# Altium schematic symbol library MyLibraryV2.SchLib: 572 symbols (part 6 of 11)
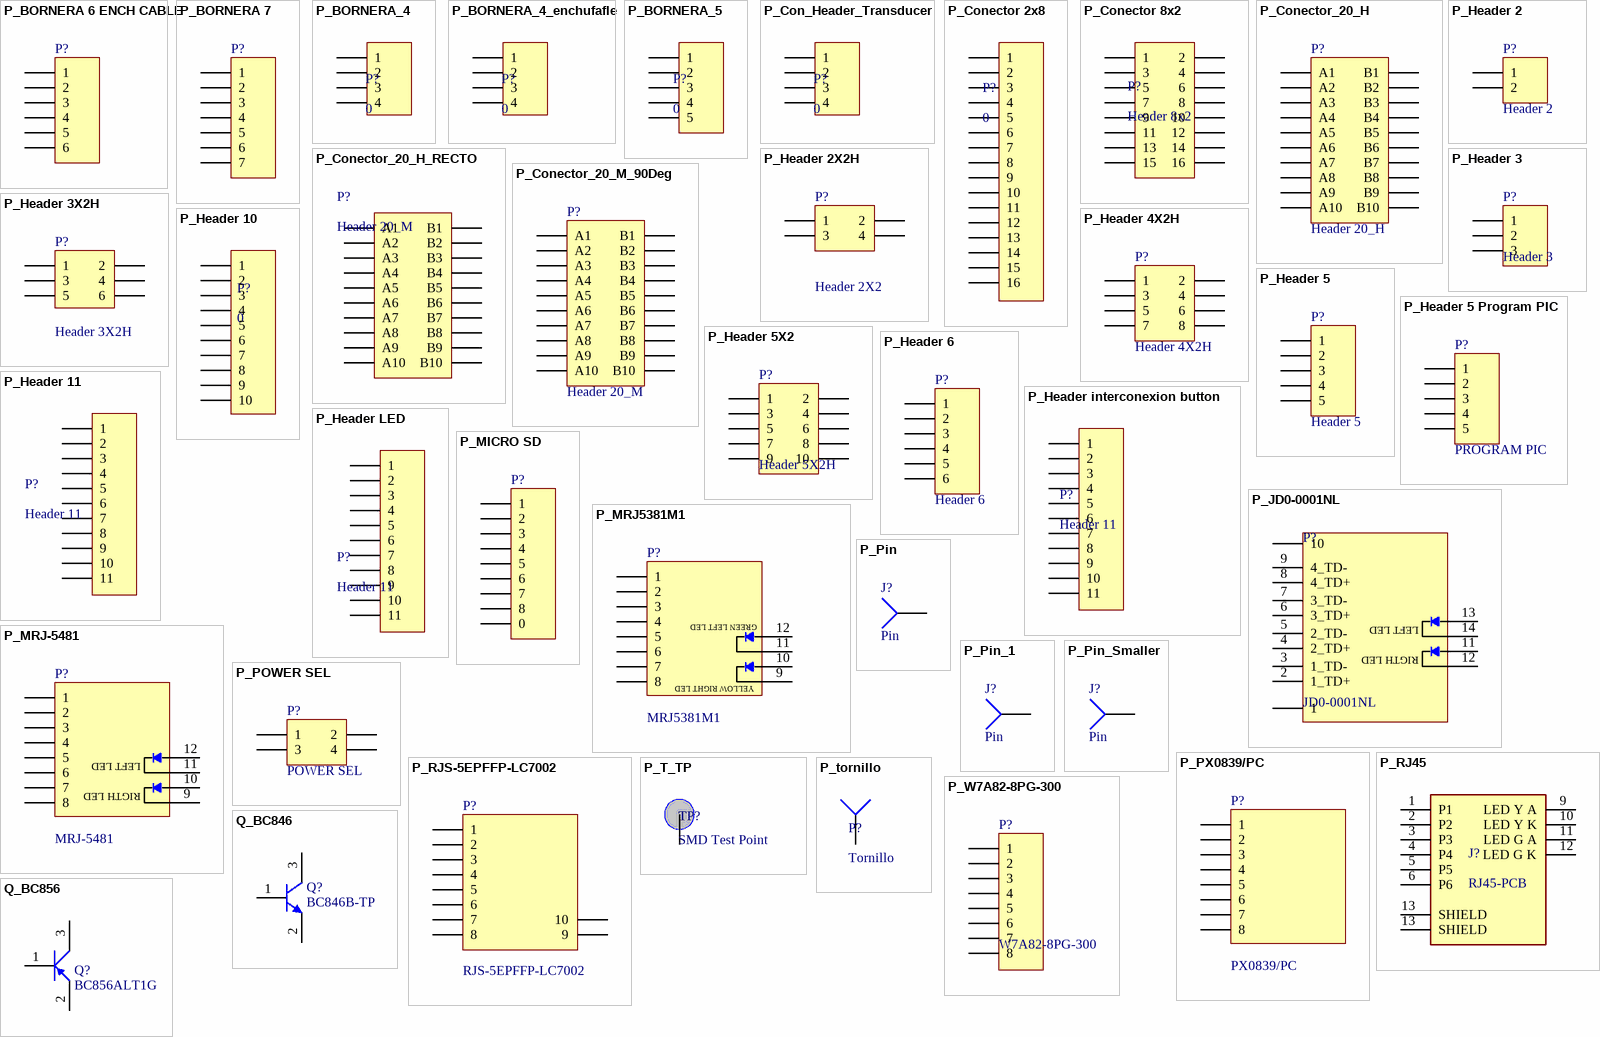
[diagram p21: symbols P_BORNERA 6 ENCH CABLE to Q_BC856]

## P_BORNERA 6 ENCH CABLE
designator P?, comment BORNERA 6 ENCH CABLE  (value not drawn)
Origin: CHINA; LatestRevisionDate: 17-Jul-2002; LatestRevisionNote: Re-released for DXP Platform.; Publisher: Altium Limited; Supplier 1: Digi-Key; Supplier Part Number 1: 609-4230-ND; Value: BORNERA 6 ENCH CABLE
pins: 1, 2, 3, 4, 5, 6

## P_BORNERA 7
designator P?, comment BORNERA 6 ENCH  (value not drawn)
Bornera 7; Value: BORNERA 6 ENCH
footprint P_CON1X7
pins: 1, 2, 3, 4, 5, 6, 7

## P_BORNERA_4
designator P?, comment 0
Value: 0
footprint P_BORNERA4
pins: 1, 2, 3, 4

## P_BORNERA_4_enchufafle
designator P?, comment 0
Value: 0
footprint P_BORNERA 4  ENCH
pins: 1, 2, 3, 4

## P_BORNERA_5
designator P?, comment 0
Value: 0
footprint P_BORNERA5
pins: 1, 2, 3, 4, 5

## P_Con_Header_Transducer
designator P?, comment 0
Value: 0
footprint P_CONN HEADER R/A 4POS 4.2MM
pins: 1, 2, 3, 4

## P_Conector 2x8
designator P?, comment 0
Value: 0
footprint P_CON2X8
pins: 1, 2, 3, 4, 5, 6, 7, 8, 9, 10, 11, 12, 13, 14, 15, 16

## P_Conector 8x2
designator P?, comment Header 8x2
Value: Header 8x2
footprint P_HDR2X8_3D (Connector; Header; 8x2 Position)
pins: 1, 2, 3, 4, 5, 6, 7, 8, 9, 10, 11, 12, 13, 14, 15, 16

## P_Conector_20_H
designator P?, comment Header 20_H
Conector 20 Position Din Connector Plug, Male Pins Gold Through Hole, Right Angle; Manufacturer: HARTING Technology; Manufacturer Part Number: 09242206825; Current Rating: 2A; Gender: Female; Connector Type: Receptacle; Number of Positions: 20; Pitch: 2.54mm; Tail Length: 4.5mm; Mounting Technology: Through Hole; Contact Material: Copper Alloy; Contact Plating: Gold; Insulation Material: Glass; Housing Material: Thermoplastic; Shell Size: 3B; Packaging: Bulk; Package Quantity: 20; Number of Rows: 2; Termination: Solder; Number of Contacts: 20; Orientation: Straight; Series: DIN 41612; Lead Free: Lead Free; Flammability Rating: UL94 V-0; RoHS Compliant: Yes; ComponentLink1URL: https://datasheet.ciiva.com/11731/0900766b811d3497-11731844.pdf?src-supplier=Rs; ComponentLink1Description: https://datasheet.ciiva.com/11731/0900766b811d3497-11731844.pdf?src-supplier=Rs; Supplier 1: Mouser; Supplier Part Number 1: 617-09-24-220-6825; RoHS: Yes; Category: DIN 41612 Connectors; Stock 1: 166; Pricing 1: 1=4,87, 10=4,27, 50=4,27, 100=3,55, 1000=2,94, 10000=2,74 (USD); Value: Header 20_H
footprint P_DIN41612-20-H (20 Position Din Connector Plug, Female Pins Gold Through Hole)
pins: A1, A2, A3, A4, A5, A6, A7, A8, A9, A10, B1, B2, B3, B4, B5, B6, B7, B8, B9, B10

## P_Conector_20_H_RECTO
designator P?, comment Header 20_M
Harting DIN Signal 3Q020MS-4, 0C1-2 - 09751206903; Manufacturer: HARTING Technology; Number of Positions: 20; Supplier: Mouser; Supplier Part Number: 617-09751206903; Manufacturer Part Number: 09751206903; RoHS: Yes; Category: DIN 41612 Connectors; Stock: 41; Pricing: 1=4.62, 10=2.92, 50=2.92, 100=2.74, 1000=2.17, 10000=1.99 (USD); Mounting Technology: Through Hole; Contact Plating: Gold; Insulation Material: Glass; Min Operating Temperature: -55°C; Max Operating Temperature: 125°C; Packaging: Bulk; Number of Rows: 2; Termination: Solder; Series: DIN 41612; Flammability Rating: UL94 V-0; RoHS Compliant: Yes; ComponentLink1URL: https://b2b.harting.com/files/livebooks/EN/PRD0200000100063/downloads/livebook.pdf?src-supplier=Digikey; ComponentLink1Description: https://b2b.harting.com/files/livebooks/EN/PRD0200000100063/downloads/livebook.pdf?src-supplier=Digikey
footprint P_DIN41612-20-M -RECTO (20 Position Din Connector Plug, Male Pins Gold Through Hole, Right Angle)
pins: A1, A2, A3, A4, A5, A6, A7, A8, A9, A10, B1, B2, B3, B4, B5, B6, B7, B8, B9, B10

## P_Conector_20_M_90Deg
designator P?, comment Header 20_M
Conector 20 Position Din Connector Plug, Male Pins Gold Through Hole, Right Angle; Manufacturer: HARTING Technology; Manufacturer Part Number: 09241206921; Gender: Female; Current Rating: 2A; Number of Positions: 20; Test Voltage: 1kV; Contact Resistance: 15MR; Pitch: 2.54mm; Mounting Technology: Through Hole; Contact Material: Copper Alloy,Nickel,Gold; Contact Plating: Gold; Insulation Material: Glass; Housing Material: Thermoplastic; Shell Size: 3B; Number of Rows: 2; Packaging: Bulk; Package Quantity: 20; Termination: Solder; Number of Contacts: 20; Orientation: Straight; Series: DIN 41612; Reach SVHC Compliant: No; Lead Free: Lead Free; Flammability Rating: UL94 V-0; RoHS Compliant: Yes; ComponentLink1URL: https://datasheet.ciiva.com/11731/0900766b80ddbe97-11731613.pdf?src-supplier=Rs; ComponentLink1Description: https://datasheet.ciiva.com/11731/0900766b80ddbe97-11731613.pdf?src-supplier=Rs; Supplier 1: Mouser; Supplier Part Number 1: 617-09-24-120-6921; RoHS: Yes; Category: DIN 41612 Connectors; Stock 1: 820; Pricing 1: 1=4,28, 10=3,89, 50=3,89, 100=3,43, 1000=2,48, 10000=2,31 (USD); Value: Header 20_M
footprint P_DIN41612-20-M (20 Position Din Connector Plug, Male Pins Gold Through Hole, Right Angle)
pins: A1, A2, A3, A4, A5, A6, A7, A8, A9, A10, B1, B2, B3, B4, B5, B6, B7, B8, B9, B10

## P_Header 2
designator P?, comment Header 2
Header, 2-Pin; Value: Header 2
footprint P_HDR1X2_3D
pins: 1, 2

## P_Header 2X2H
designator P?, comment Header 2X2
Header, 2-Pin, Dual row, Right Angle; Value: Header 2X2
footprint P_HDR2X2_3D (Connector; Header; 2x2 Position)
pins: 1, 2, 3, 4

## P_Header 3
designator P?, comment Header 3
Header, 3-Pin; Value: Header 3
footprint P_HDR1X3_3D
pins: 1, 2, 3

## P_Header 3X2H
designator P?, comment Header 3X2H
Header, 3-Pin, Dual row, Right Angle; Value: Header 3X2H
footprint P_HDR2X3_3D (Connector; Header; 3x2 Position)
pins: 1, 2, 3, 4, 5, 6

## P_Header 4X2H
designator P?, comment Header 4X2H
Header, 4-Pin, Dual row, Right Angle; Value: Header 4X2H
footprint P_HDR2X4 _3d (Connector; Header; 4x2 Position)
pins: 1, 2, 3, 4, 5, 6, 7, 8

## P_Header 5
designator P?, comment Header 5
Header, 5-Pin; Value: Header 5
footprint P_HDR1X5_3D (Connector; Header; 5 Position)
pins: 1, 2, 3, 4, 5

## P_Header 5 Program PIC
designator P?, comment PROGRAM PIC
Header, 5-Pin, programador PIC; Value: PROGRAM PIC
footprint P_HDR1X5_3D (Connector; Header; 5 Position)
pins: 1, 2, 3, 4, 5

## P_Header 5X2
designator P?, comment Header 5X2H
Header, 5-Pin, Dual row, Right Angle; Value: Header 5X2H
footprint P_CONN HDR10POS
pins: 1, 2, 3, 4, 5, 6, 7, 8, 9, 10

## P_Header 6
designator P?, comment Header 6
Header, 6-Pin; Value: Header 6
footprint P_HDR1X6_3D (Connector; Header; 6 Position)
pins: 1, 2, 3, 4, 5, 6

## P_Header 10
designator P?, comment 0
Value: 0
footprint P_CON2X5
pins: 1, 2, 3, 4, 5, 6, 7, 8, 9, 10

## P_Header 11
designator P?, comment Header 11
Header, 11-Pin; Value: Header 11
footprint P_Header 11
pins: 1, 2, 3, 4, 5, 6, 7, 8, 9, 10, 11

## P_Header interconexion button
designator P?, comment Header 11
Header, 11-Pin; Value: Header 11
footprint P_Header interconexion button
pins: 1, 2, 3, 4, 5, 6, 7, 8, 9, 10, 11

## P_Header LED
designator P?, comment Header 11
Header, 11-Pin; Value: Header 11
footprint P_Header led
pins: 1, 2, 3, 4, 5, 6, 7, 8, 9, 10, 11

## P_JD0-0001NL
designator P?, comment JD0-0001NL
Conector JD0-0001NL; Value: JD0-0001NL
footprint P_JD0-0001NL (RJ45-PCB)
pins: 1, 2 1_TD+, 3 1_TD-, 4 2_TD+, 5 2_TD-, 6 3_TD+, 7 3_TD-, 8 4_TD+, 9 4_TD-, 10, 11, 12, 13, 14
text: LEFT LED; RIGTH LED

## P_MICRO SD
designator P?, comment MICRO SD  (value not drawn)
Value: MICRO SD
footprint P_SD_CARD
pins: 0, 1, 2, 3, 4, 5, 6, 7, 8

## P_MRJ5381M1
designator P?, comment MRJ5381M1
Conector Modular Jack RCP 8 POS Solder RA Thru-Hole 8 Terminal 1 Port; Value: MRJ5381M1
footprint P_MRJ5381M1 (Conn Modular Jack RCP 8 POS Solder RA Thru-Hole 8 Terminal 1 Port)
pins: 1, 2, 3, 4, 5, 6, 7, 8, 9, 10, 11, 12
text: GREEN LEFT LED; YELLOW RIGHT LED

## P_MRJ-5481
designator P?, comment MRJ-5481
Conector MRJ-5481; Value: MRJ-5481
footprint P_RJ-45
pins: 1, 2, 3, 4, 5, 6, 7, 8, 9, 10, 11, 12
text: LEFT LED; RIGTH LED

## P_Pin
designator J?, comment Pin
Value: Pin
footprint P_PIN1 (Connector; Plug)
pins: 1

## P_Pin_1
designator J?, comment Pin
Value: Pin
footprint P_PIN
pins: 1

## P_Pin_Smaller
designator J?, comment Pin
Manufacturer: Keystone Electronics; Manufacturer Part Number: 6044; Body Material: Copper,Nylon,Polyamide; Plating: Silver; Number of Positions: 4; Gender: Female; Current Rating: 5A; Operating Supply Voltage: 1.5kV; Insulation: Mating End Insulated; Pitch: 0.375inch; Mounting Technology: Through Hole,Vertical; Contact Material: Brass,Copper; Contact Plating: Silver,Tin; Color: Black; Material: Bronze,Silver; Insulation Material: Nylon; Insulation Color: Black; Number of Rows: 1; Termination: Turret; Series: -; Package Quantity: 1; Packaging: Bulk; Height: 7.94mm; Reach SVHC Compliant: No; Lead Free: Lead Free; RoHS Compliant: Yes; ComponentLink1URL: https://datasheet.ciiva.com/16372/m60-2p105-16372476.pdf?src-supplier=Future+Electronics; ComponentLink1Description: https://datasheet.ciiva.com/16372/m60-2p105-16372476.pdf?src-supplier=Future+Electronics; Supplier 1: Mouser; Supplier Part Number 1: 534-6044; RoHS: Yes; Category: Connectors; Stock 1: 3287; Pricing 1: 1=1,16, 10=1,16, 50=1,01, 100=0,932, 1000=0,549, 10000=0,424 (USD); Value: Pin
footprint P_PIN1_Smaller (Connector; Plug)
pins: 1

## P_POWER SEL
designator P?, comment POWER SEL
Value: POWER SEL
footprint P_POWER SEL
pins: 1, 2, 3, 4

## P_PX0839/PC
designator P?, comment PX0839/PC
Conector Modular Jack RCP 8 POS Solder RA Thru-Hole 8 Terminal 1 Port; Value: PX0839/PC
footprint P_PX0839/PC (Connector RJ45)
pins: 1, 2, 3, 4, 5, 6, 7, 8

## P_RJ45
designator J?, comment RJ45-PCB
Conector MagJack 10/100BASE-T | 1X1 | No LED | Tab Down | RoHS; Value: RJ45-PCB
footprint P_RJ45-PCB
pins: 1 P1, 2 P2, 3 P3, 4 P4, 5 P5, 6 P6, 9 LED Y A, 10 LED Y K, 11 LED G A, 12 LED G K, 13 SHIELD, 13 SHIELD

## P_RJS-5EPFFP-LC7002
designator P?, comment RJS-5EPFFP-LC7002
Conector RJ45 FMF; Manufacturer: Amphenol; Connector Type: Jack; Direction: User Selectable; Number of Ports: 1; Shielding: Shielded; Gender: 4472Gender; Number of Contacts: 8NUMBER; Ratings: IP67,Waterproof,Dust Tight; Mounting Technology: Panel,Bulkhead; Pins: 8NUMBER; Contact Plating: Gold; Housing Material: Nylon; Contact Material: 157ConductorMaterial; Min Operating Temperature: -20°C; Max Operating Temperature: 70°C; Packaging: Tray; Number of Rows: 1; Termination: Solder; Series: -; Orientation: 5491OrientationType; Height: 20.75mm; RoHS Compliant: No; ComponentLink1URL: http://www.mouser.com/ds/2/18/RJS-5EPFFP-LC7002-1013714.pdf?src-supplier=Mouser; ComponentLink1Description: http://www.mouser.com/ds/2/18/RJS-5EPFFP-LC7002-1013714.pdf?src-supplier=Mouser; ComponentLink2URL: http://datasheet.octopart.com/RJS-5EPFFP-LC7002-Amphenol-datasheet-68357086.pdf?src-supplier=Avnet; ComponentLink2Description: http://datasheet.octopart.com/RJS-5EPFFP-LC7002-Amphenol-datasheet-68357086.pdf?src-supplier=Avnet; ComponentLink3URL: http://datasheet.octopart.com/RJS-5EPFFP-LC7002-Amphenol-datasheet-68357086.pdf?src-supplier=Future+Electronics; ComponentLink3Description: http://datasheet.octopart.com/RJS-5EPFFP-LC7002-Amphenol-datasheet-68357086.pdf?src-supplier=Future+Electronics; ComponentLink4URL: http://www.amphenolltw.com/2012download/2D PDF/08_RJ Connectors/RJS-5EPFFP-LC7002.pdf?src-supplier=Digikey; ComponentLink4Description: http://www.amphenolltw.com/2012download/2D PDF/08_RJ Connectors/RJS-5EPFFP-LC7002.pdf?src-supplier=Digikey; ComponentLink5URL: http://datasheet.octopart.com/RJS-5EPFFP-LC7002-Amphenol-datasheet-68357086.pdf?src-supplier=Distrelec; ComponentLink5Description: http://datasheet.octopart.com/RJS-5EPFFP-LC7002-Amphenol-datasheet-68357086.pdf?src-supplier=Distrelec; ComponentLink6URL: http://datasheet.octopart.com/RJS-5EPFFP-LC7002-Amphenol-datasheet-68357086.pdf?src-supplier=Rs; ComponentLink6Description: http://datasheet.octopart.com/RJS-5EPFFP-LC7002-Amphenol-datasheet-68357086.pdf?src-supplier=Rs; ComponentLink7URL: http://datasheet.octopart.com/RJS-5EPFFP-LC7002-Amphenol-datasheet-68357086.pdf?src-supplier=NAC+Semi; ComponentLink7Description: http://datasheet.octopart.com/RJS-5EPFFP-LC7002-Amphenol-datasheet-68357086.pdf?src-supplier=NAC+Semi; ComponentLink8URL: https://datasheet.octopart.com/RJS-5EPFFP-LC7002-Amphenol-datasheet-140257190.pdf?src-supplier=TME; ComponentLink8Description: https://datasheet.octopart.com/RJS-5EPFFP-LC7002-Amphenol-datasheet-140257190.pdf?src-supplier=TME; ComponentLink9URL: http://datasheet.octopart.com/RJS-5EPFFP-LC7002-Amphenol-datasheet-68357086.pdf?src-supplier=TTI; ComponentLink9Description: http://datasheet.octopart.com/RJS-5EPFFP-LC7002-Amphenol-datasheet-68357086.pdf?src-supplier=TTI; ComponentLink10URL: http://datasheet.octopart.com/RJS-5EPFFP-LC7002-Amphenol-datasheet-68357086.pdf?src-supplier=Electro+Sonic; ComponentLink10Description: http://datasheet.octopart.com/RJS-5EPFFP-LC7002-Amphenol-datasheet-68357086.pdf?src-supplier=Electro+Sonic; Supplier 1: Mouser; Supplier Part Number 1: 523-RJS-5EPFFPLC7002; Manufacturer Part Number: RJS-5EPFFP-LC7002; RoHS: No; Category: Modular / Ethernet Connectors; Stock 1: 1184; Pricing 1: 1=8,57, 10=8,09, 50=7,52, 100=7,12, 1000=6,23, 10000=6,23 (USD); Value: RJS-5EPFFP-LC7002
footprint P_RJS-5EPFFP-LC7002 (Connector RJ45)
pins: 1, 2, 3, 4, 5, 6, 7, 8, 9, 10

## P_T_TP
designator TP?, comment SMD Test Point
Test Point SMD; Origin: CHINA; Published: 8-Jun-2000; LatestRevisionDate: 17-Jul-2002; LatestRevisionNote: Re-released for DXP Platform.; PackageReference: AXIAL-0.3; Publisher: Altium Limited; PackageDescription: Axial Device, Thru-Hole; 2 Leads; 0.3 in Pin Spacing; Supplier 1: Mouser; Supplier Part Number 1: 279-RCT-0C; Type: CONNECTOR; Value: SMD Test Point
footprint TP SMD
pins: 1

## P_tornillo
designator P?, comment Tornillo
Value: Tornillo
footprint P_Tornillo
pins: 1

## P_W7A82-8PG-300
designator P?, comment W7A82-8PG-300
Header, 8-Pin Alimentacion; Manufacturer: Switchcraft Conxall; Connector Type: Receptacle; Current Rating: 10A; Voltage Rating: 250V; Ratings: IP67,Waterproof,Dust Tight; Mounting Technology: Panel,Bulkhead,Front Side Nut; Pins: 8; Contact Plating: Gold; Min Operating Temperature: -40°C; Max Operating Temperature: 85°C; Packaging: Bulk; Termination: Solder; Fastening Type: Bayonet; Series: Mini-Con-X®; ComponentLink1URL: https://media.digikey.com/pdf/Data%20Sheets/Switchcraft%20PDFs/Mini_Con_X.pdf?src-supplier=Digikey; ComponentLink1Description: https://media.digikey.com/pdf/Data%20Sheets/Switchcraft%20PDFs/Mini_Con_X.pdf?src-supplier=Digikey; Supplier 1: Mouser; Supplier Part Number 1: 502-W7A82-8PG-300; Manufacturer Part Number: W7A82-8PG-300; RoHS: Yes; Category: Circular Connectors; Stock 1: 198; Pricing 1: 1=14,08, 10=12,8, 50=11,49, 100=10,96, 1000=9,14, 10000=9,14 (USD); Value: W7A82-8PG-300
footprint P_W7A82-8PG-300
pins: 1, 2, 3, 4, 5, 6, 7, 8

## Q_BC846
designator Q?, comment BC846B-TP
NPN Bipolar Transistor; Manufacturer: MCC; Collector Emitter Voltage (VCEO): 65V; Frequency: 100MHz; Max Collector Current: 100mA; Max Power Dissipation: 225mW; Number of Elements: 1; Collector Base Voltage (VCBO): 80V; Emitter Base Voltage (VEBO): 6V; Collector-emitter Voltage-Max: 500mV; Mounting Technology: Surface Mount; Case/Package: SOT-23; Pins: 3; Min Operating Temperature: -55°C; Max Operating Temperature: 150°C; Packaging: Tape and Reel; Package Quantity: 3000; Transition Frequency: 100MHz; Collector Emitter Breakdown Voltage: 65V; Max Breakdown Voltage: 65V; Polarity: NPN; Power Dissipation: 225mW; Series: -; RoHS Compliant: Yes; ComponentLink1URL: https://datasheet.ciiva.com/972/bc846a-bc849csot-23-972810.pdf?src-supplier=Digikey; ComponentLink1Description: https://datasheet.ciiva.com/972/bc846a-bc849csot-23-972810.pdf?src-supplier=Digikey; ComponentLink2URL: https://datasheet.ciiva.com/972/bc846a-bc849csot-23-972811.pdf?src-supplier=Digikey; ComponentLink2Description: https://datasheet.ciiva.com/972/bc846a-bc849csot-23-972811.pdf?src-supplier=Digikey; ComponentLink3URL: https://datasheet.ciiva.com/972/bc846a-bc849csot-23-972812.pdf?src-supplier=Digikey; ComponentLink3Description: https://datasheet.ciiva.com/972/bc846a-bc849csot-23-972812.pdf?src-supplier=Digikey; Supplier 1: Mouser; Supplier Part Number 1: 833-BC846B-TP; Manufacturer Part Number: BC846B-TP; RoHS: Yes; Category: BJTs; Stock 1: 7248; Pricing 1: 1=0,13, 10=0,119, 50=0,119, 100=0,04, 1000=0,028, 10000=0,018 (USD); Value: BC846B-TP
footprint Q_SOT-23
pins: 1 B, 2 E, 3 C

## Q_BC856
designator Q?, comment BC856ALT1G
TRANS PNP 65V 0.1A SOT23; Manufacturer: ON Semiconductor; Max Power Dissipation: 300mW; Max Collector Current: 100mA; Transition Frequency: 100MHz; Emitter Base Voltage (VEBO): 5V; Collector Base Voltage (VCBO): 80V; Collector Emitter Saturation Voltage: -650mV; Collector-emitter Voltage-Max: 650mV; hFE Min: 125; Number of Elements: 1; Voltage Rating (DC): -65V; Current Rating: -100mA; ComponentLink1Description: Manufacturer Link; ComponentLink1URL: http://www.fairchildsemi.com/; ComponentLink2Description: Datasheet; ComponentLink2URL: http://www.fairchildsemi.com/ds/2N%2F2N3904.pdf; Case/Package: SOT-23-3; Pins: 3; Contact Plating: Tin,Matte; Min Operating Temperature: -55°C; Max Operating Temperature: 150°C; Package Quantity: 3000; Packaging: Tape and Reel; Collector Emitter Breakdown Voltage: 65V; Polarity: PNP; Clock Frequency: 100MHz; Gain Bandwidth Product: 100MHz; Series: -; Collector Emitter Voltage (VCEO): 65V; Frequency: 100MHz; Max Breakdown Voltage: 65V; Power Dissipation: 300mW; Length: 2.9mm; Width: 1.3mm; Height: 0.94mm; Radiation Hardening: No; Lead Free: Lead Free; RoHS Compliant: Yes; Reach SVHC Compliant: No; ComponentLink3URL: http://www.farnell.com/datasheets/1840529.pdf?src-supplier=Farnell; ComponentLink3Description: http://www.farnell.com/datasheets/1840529.pdf?src-supplier=Farnell; ComponentLink4URL: http://www.alliedelec.com/m/d/ae2fff4c1f3549b23e4cd9e6cc054b51.pdf?src-supplier=Allied+Electronics; ComponentLink4Description: http://www.alliedelec.com/m/d/ae2fff4c1f3549b23e4cd9e6cc054b51.pdf?src-supplier=Allied+Electronics; ComponentLink5URL: http://www.mouser.com/ds/2/308/BC856ALT1-D-249456.pdf?src-supplier=Mouser; ComponentLink5Description: http://www.mouser.com/ds/2/308/BC856ALT1-D-249456.pdf?src-supplier=Mouser; ComponentLink6URL: http://www.farnell.com/datasheets/1840529.pdf?src-supplier=Element14; ComponentLink6Description: http://www.farnell.com/datasheets/1840529.pdf?src-supplier=Element14; ComponentLink7URL: http://www.farnell.com/datasheets/1840529.pdf?src-supplier=Newark; ComponentLink7Description: http://www.farnell.com/datasheets/1840529.pdf?src-supplier=Newark; Supplier Part Number 1: 863-BC856ALT1G; Manufacturer Part Number: BC856ALT1G; RoHS: Yes; Category: BJTs; Stock 1: 30566; Pricing 1: 1=0,11, 10=0,071, 50=0,071, 100=0,034, 1000=0,021, 10000=0,015 (USD); Value: BC856ALT1G; Supplier 1: Mouser
footprint Q_SOT-23B_N (SOT23, 3-Leads, Body 2.9x1.3mm, Pitch 0.95mm, Lead Span 2.4mm, IPC Medium Density)
pins: 1 B, 2 E, 3 C

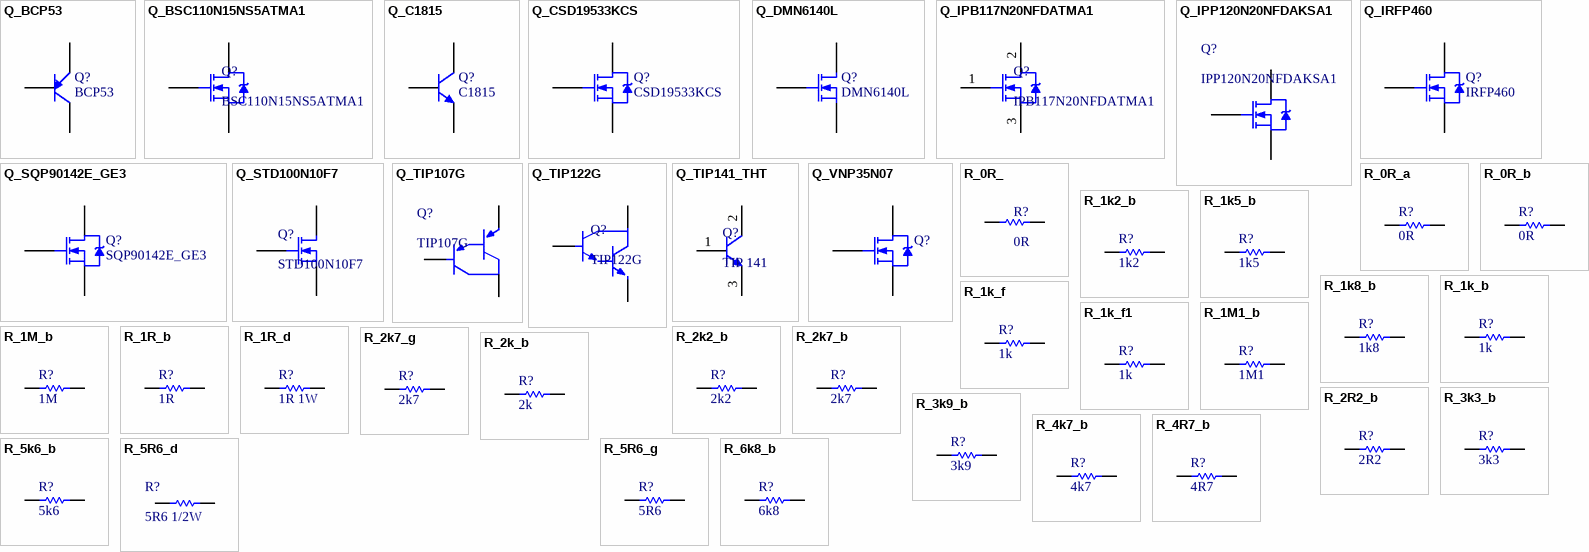
[diagram p8: symbols Q_BCP53 to R_6k8_b]

## Q_BCP53
designator Q?, comment BCP53
(Modificar) Transistor; Value: BCP53
pins: 1 B, 2 E, 3 C

## Q_BSC110N15NS5ATMA1
designator Q?, comment BSC110N15NS5ATMA1
(Modificar) Transistor; Value: BSC110N15NS5ATMA1
footprint Q_SMD_TDSON 8
pins: 1 G, 2 D, 3 S

## Q_C1815
designator Q?, comment C1815
(Modificar) Transistor; Value: C1815
pins: 1 C, 2 B, 3 E

## Q_CSD19533KCS
designator Q?, comment CSD19533KCS
(Modificar) Transistor; ComponentLink1Description: Manufacturer Link; Value: CSD19533KCS
pins: 1 G, 2 D, 3 S

## Q_DMN6140L
designator Q?, comment DMN6140L
(Modificar) Transistor; Value: DMN6140L
pins: 1 G, 2 S, 3 D

## Q_IPB117N20NFDATMA1
designator Q?, comment IPB117N20NFDATMA1
MOSFET N-CH 200V 84A TO263-3; Manufacturer: Infineon; Input Capacitance: 6.65nF; Rds On Max: 11.7mR; Max Power Dissipation: 300W; Turn-On Delay Time: 13ns; Rise Time: 10ns; Turn-Off Delay Time: 24ns; Fall Time: 8ns; Threshold Voltage: 3V; Gate to Source Voltage (Vgs): 20V; Number of Channels: 1; Polarity: N-CHANNEL; Mounting Technology: Surface Mount; Case/Package: TO-263-3; Pins: 3; Weight: 0.068654oz; Min Operating Temperature: -55°C; Max Operating Temperature: 175°C; Packaging: Tape and Reel; Package Quantity: 1; Drain to Source Voltage (Vdss): 200V; Continuous Drain Current (ID): 84A; Drain to Source Resistance: 11.7mR; Max Dual Supply Voltage: 200V; Series: OptiMOS™; Drain to Source Breakdown Voltage: 200V; On-State Resistance: 11.7mR; Power Dissipation: 300W; Height: 4.82mm; Reach SVHC Compliant: No; Lead Free: Contains Lead; Halogen Free: Halogen Free; RoHS Compliant: Yes; ComponentLink1URL: http://www.farnell.com/datasheets/2117698.pdf?src-supplier=Farnell; ComponentLink1Description: http://www.farnell.com/datasheets/2117698.pdf?src-supplier=Farnell; ComponentLink2URL: http://www.mouser.com/ds/2/196/DS_IPB117N20NFD_2_0-372014.pdf?src-supplier=Mouser; ComponentLink2Description: http://www.mouser.com/ds/2/196/DS_IPB117N20NFD_2_0-372014.pdf?src-supplier=Mouser; ComponentLink3URL: http://www.farnell.com/datasheets/2117698.pdf?src-supplier=Element14; ComponentLink3Description: http://www.farnell.com/datasheets/2117698.pdf?src-supplier=Element14; Supplier 1: Mouser; Supplier Part Number 1: 726-IPB117N20NFD; Manufacturer Part Number: IPB117N20NFDATMA1; RoHS: Yes; Category: MOSFETs; Stock 1: 1769; Pricing 1: 1=6,39, 10=5,75, 50=5,49, 100=4,6, 1000=3,35, 10000=3,28 (USD); Value: IPB117N20NFDATMA1
footprint Q_SMD_D2PAK_B
pins: 1 G, 2 D, 3 S

## Q_IPP120N20NFDAKSA1
designator Q?, comment IPP120N20NFDAKSA1
IPP120N20NFD Series 200 V 84 A OptiMOSFD Power Transistor MOSFET - TO-220-3; Manufacturer: Infineon; Value: IPP120N20NFDAKSA1; Case/Package: TO-220-3; Pins: 3; Packaging: Rail/Tube; Halogen Free: Halogen Free; Lead Free: Lead Free; RoHS Compliant: Yes; Reach SVHC Compliant: Yes; ComponentLink1URL: http://www.farnell.com/datasheets/1932551.pdf?src-supplier=Element14; ComponentLink1Description: http://www.farnell.com/datasheets/1932551.pdf?src-supplier=Element14; Supplier 1: Mouser; Supplier Part Number 1: 726-IPP120N20NFDAKS1; Manufacturer Part Number: IPP120N20NFD; RoHS: Yes; Category: Uncategorized; Stock 1: 2034; Pricing 1: 1=6,7, 10=6,18, 50=4,4, 100=4,11, 1000=3,48, 10000=3,48 (USD)
footprint Q_THT_TO-220AB
pins: 1 G, 2 D, 3 S

## Q_IRFP460
designator Q?, comment IRFP460
HEXFET Power MOSFET; Value: IRFP460
footprint TO-247 - BIS
pins: 1 G, 2 D, 3 S

## Q_SQP90142E_GE3
designator Q?, comment SQP90142E_GE3
(Modificar) Transistor; Value: SQP90142E_GE3
pins: 1 G, 2 D, 3 S

## Q_STD100N10F7
designator Q?, comment STD100N10F7
Value: STD100N10F7
footprint Q_SMD_TO-252
pins: 1 G, 2 D, 3 S

## Q_TIP107G
designator Q?, comment TIP107G
ON Semi TIP107G PNP Darlington Transistor; 8 A 100 V HFE: 200; 3-Pin TO-220AB; Manufacturer: ON Semiconductor; Number of Elements: 1; hFE Min: 200; Max Power Dissipation: 2W; Collector Emitter Voltage (VCEO): 100V; Emitter Base Voltage (VEBO): 5V; Max Collector Current: 8A; Collector Emitter Saturation Voltage: 2V; Power Dissipation: 80W; Voltage Rating (DC): -100V; Current Rating: -8A; Collector-emitter Voltage-Max: 2.5V; Case/Package: TO-220-3; Pins: 3; Min Operating Temperature: -65°C; Max Operating Temperature: 150°C; Package Quantity: 50; Packaging: Rail/Tube; Polarity: PNP; Collector Base Voltage (VCBO): 100V; Collector Emitter Breakdown Voltage: 100V; Series: -; Length: 10.28mm; Width: 4.82mm; Height: 9.28mm; Radiation Hardening: No; Reach SVHC Compliant: No; Lead Free: Lead Free; RoHS Compliant: Yes; ComponentLink1URL: https://datasheet.ciiva.com/15139/getdatasheetpartid-68093-15139923.pdf?src-supplier=Verical; ComponentLink1Description: https://datasheet.ciiva.com/15139/getdatasheetpartid-68093-15139923.pdf?src-supplier=Verical; ComponentLink2URL: https://datasheet.ciiva.com/6358/tip100-d-6358476.pdf?src-supplier=Digikey; ComponentLink2Description: https://datasheet.ciiva.com/6358/tip100-d-6358476.pdf?src-supplier=Digikey; ComponentLink3URL: https://datasheet.ciiva.com/7972/tip100-d-7972122.pdf?src-supplier=Element14; ComponentLink3Description: https://datasheet.ciiva.com/7972/tip100-d-7972122.pdf?src-supplier=Element14; ComponentLink4URL: https://datasheet.ciiva.com/14546/70100073-14546285.pdf?src-supplier=Allied+Electronics; ComponentLink4Description: https://datasheet.ciiva.com/14546/70100073-14546285.pdf?src-supplier=Allied+Electronics; ComponentLink5URL: https://datasheet.ciiva.com/16379/tip100-d-16379800.pdf?src-supplier=Future+Electronics; ComponentLink5Description: https://datasheet.ciiva.com/16379/tip100-d-16379800.pdf?src-supplier=Future+Electronics; Supplier 1: Mouser; Supplier Part Number 1: 863-TIP107G; Manufacturer Part Number: TIP107G; RoHS: Yes; Category: BJTs; Stock 1: 11378; Pricing 1: 1=1,11, 10=0,899, 50=0,899, 100=0,699, 1000=0,483, 10000=0,462 (USD); Value: TIP107G
footprint Q_SMD_TO-220-SMD
pins: 1 Base, 2 Colector, 3 Emisor

## Q_TIP122G
designator Q?, comment TIP122G
Bipolar junction transistor, NPN, 5 A, 100 ## Fehler ##, THT, TO-220, TIP122G; Manufacturer: ON Semiconductor; hFE Min: 1000; Max Power Dissipation: 2W; Collector Emitter Voltage (VCEO): 100V; Number of Elements: 1; Max Collector Current: 5A; Emitter Base Voltage (VEBO): 5V; Power Dissipation: 65W; Collector Emitter Saturation Voltage: 2V; Collector-emitter Voltage-Max: 4V; Case/Package: TO-220-3; Pins: 3; Min Operating Temperature: -65°C; Max Operating Temperature: 150°C; Package Quantity: 50; Packaging: Rail/Tube; Polarity: NPN; Collector Base Voltage (VCBO): 100V; Collector Emitter Breakdown Voltage: 100V; Voltage Rating (DC): 100V; Current Rating: 5A; Series: -; Continuous Collector Current: 5A; Length: 0.404inch; Width: 0.19inch; Height: 0.62inch; Radiation Hardening: No; Reach SVHC Compliant: No; Lead Free: Lead Free; RoHS Compliant: Yes; ComponentLink1URL: https://datasheet.ciiva.com/14179/mntip120-22-25-27-e-14179777.pdf?src-supplier=Distrelec; ComponentLink1Description: https://datasheet.ciiva.com/14179/mntip120-22-25-27-e-14179777.pdf?src-supplier=Distrelec; ComponentLink2URL: https://datasheet.ciiva.com/30480/0900766b811a65ff-30480399.pdf?src-supplier=Rs; ComponentLink2Description: https://datasheet.ciiva.com/30480/0900766b811a65ff-30480399.pdf?src-supplier=Rs; ComponentLink3URL: https://datasheet.ciiva.com/15139/getdatasheetpartid-72087-15139946.pdf?src-supplier=Verical; ComponentLink3Description: https://datasheet.ciiva.com/15139/getdatasheetpartid-72087-15139946.pdf?src-supplier=Verical; ComponentLink4URL: https://datasheet.ciiva.com/6358/tip120-d-6358986.pdf?src-supplier=Digikey; ComponentLink4Description: https://datasheet.ciiva.com/6358/tip120-d-6358986.pdf?src-supplier=Digikey; ComponentLink5URL: https://datasheet.ciiva.com/11210/tip120-d-11210471.pdf?src-supplier=Avnet; ComponentLink5Description: https://datasheet.ciiva.com/11210/tip120-d-11210471.pdf?src-supplier=Avnet; ComponentLink6URL: https://datasheet.ciiva.com/14546/70099572-14546124.pdf?src-supplier=Allied+Electronics; ComponentLink6Description: https://datasheet.ciiva.com/14546/70099572-14546124.pdf?src-supplier=Allied+Electronics; Supplier 1: Mouser; Supplier Part Number 1: 863-TIP122G; Manufacturer Part Number: TIP122G; RoHS: Yes; Category: BJTs; Stock 1: 43171; Pricing 1: 1=0,76, 10=0,753, 50=0,753, 100=0,456, 1000=0,317, 10000=0,281 (USD); Value: TIP122G
footprint Q_SMD_TO-220-SMD
pins: 1 Base, 2 Colector, 3 Emisor

## Q_TIP141_THT
designator Q?, comment TIP 141
Value: TIP 141
footprint Q_THT_TO-220AB
pins: 1 B, 2 C, 3 E

## Q_VNP35N07
designator Q?, comment VNP35N07-E  (value not drawn)
(Modificar) Transistor; ComponentLink1Description: Manufacturer Link; ComponentLink1URL: http://www.irf.com/; Value: VNP35N07-E
footprint TO-220-Horiz-SUP
footprint Q_THT_TO-220-Horiz
pins: 1 G, 2 D, 3 S

## R_0R_
designator R?, comment 0R
Resistor SMD 1005; Value: 0R
footprint R_1005_0402_a
pins: 1, 2

## R_0R_a
designator R?, comment 0R
Resistor SMD 0603; Manufacturer: Yageo; Manufacturer Part Number: RC0603JR-070RL; Tolerance: 1%; Power Rating: 100mW; Temperature Coefficient: 200ppm/°C; Voltage Rating: 50V; Resistance Tolerance: 5%; Case/Package: 0603; Pins: 2; Contact Plating: Tin,Matte; Case Code (Imperial): 0603; Case Code (Metric): 1608; Min Operating Temperature: -55°C; Max Operating Temperature: 155°C; Termination: SMD/SMT; Resistor Type: Thick Film; Series: RC; Technology: THICK FILM; Package Quantity: 5000; Packaging: Tape and Reel; Voltage Rating (DC): 50V; Features: Moisture Resistant; Max Power Dissipation: 100mW; Number of Terminations: 2; Construction: Rectangular; Length: 1.6mm; Width: 0.8mm; Height: 0.45mm; Depth: 0.8mm; RoHS Compliant: Yes; Military Standard: Not; Reach SVHC Compliant: Unknown; ComponentLink1URL: https://datasheet.ciiva.com/11808/pyu-r-int-6-11808700.pdf?src-supplier=Rs; ComponentLink1Description: https://datasheet.ciiva.com/11808/pyu-r-int-6-11808700.pdf?src-supplier=Rs; ComponentLink2URL: https://datasheet.ciiva.com/22747/443971-22747530.pdf?src-supplier=Element14; ComponentLink2Description: https://datasheet.ciiva.com/22747/443971-22747530.pdf?src-supplier=Element14; ComponentLink3URL: https://datasheet.ciiva.com/12555/rc0603-272842-12555254.pdf?src-supplier=Mouser; ComponentLink3Description: https://datasheet.ciiva.com/12555/rc0603-272842-12555254.pdf?src-supplier=Mouser; ComponentLink4URL: https://datasheet.ciiva.com/7746/1738695-7746421.pdf?src-supplier=Element14; ComponentLink4Description: https://datasheet.ciiva.com/7746/1738695-7746421.pdf?src-supplier=Element14; ComponentLink5URL: https://datasheet.ciiva.com/7746/1738695-7746422.pdf?src-supplier=Element14; ComponentLink5Description: https://datasheet.ciiva.com/7746/1738695-7746422.pdf?src-supplier=Element14; ComponentLink6URL: https://datasheet.ciiva.com/8883/pyu-rc0603-51-rohs-l-4-8883045.pdf?src-supplier=Avnet; ComponentLink6Description: https://datasheet.ciiva.com/8883/pyu-rc0603-51-rohs-l-4-8883045.pdf?src-supplier=Avnet; ComponentLink7URL: https://datasheet.ciiva.com/15189/getdatasheetpartid-329462-15189845.pdf?src-supplier=Verical; ComponentLink7Description: https://datasheet.ciiva.com/15189/getdatasheetpartid-329462-15189845.pdf?src-supplier=Verical; Supplier 1: Digikey; Supplier Part Number 1: 311-0.0GRCT-ND; RoHS: Yes; Category: Chip SMD Resistors; Stock 1: 759369; Pricing 1: 1=0,1, 10=0,015, 25=0,0112, 50=0,0086, 100=0,006, 250=0,0048, 500=0,00386, 1000=0,00284 (USD); Value: 0R
footprint R_0603_1608_a (Chip Resistor; Body 1.6 x 0.8 mm (LxW typ))
pins: 1, 2

## R_0R_b
designator R?, comment 0R
Resistor SMD 0805; Manufacturer: Stackpole Electronics; Manufacturer Part Number: RMCF0805ZT0R00; Power Rating: 125mW; Temperature Coefficient: 200ppm/°C; Voltage Rating: 150V; Mounting Technology: Surface Mount; Case/Package: 0805; Case Code (Metric): 2012; Case Code (Imperial): 0805; Contact Plating: Tin,Matte; Min Operating Temperature: -55°C; Max Operating Temperature: 155°C; Packaging: Tape and Reel; Number of Terminations: 2; Max Power Dissipation: 125mW; Features: Automotive AEC-Q200; Series: RMCF; Construction: Rectangular; Length: 2mm; Width: 0.049inch; Height: 0.026inch; Depth: 1.25mm; Ratings: AEC-Q200; Radiation Hardening: No; Lead Free: Lead Free; Military Standard: Not; RoHS Compliant: Yes; ComponentLink1URL: https://datasheet.ciiva.com/15193/getdatasheetpartid-360417-15193658.pdf?src-supplier=Verical; ComponentLink1Description: https://datasheet.ciiva.com/15193/getdatasheetpartid-360417-15193658.pdf?src-supplier=Verical; Supplier 1: Digikey; Supplier Part Number 1: RMCF0805ZT0R00CT-ND; RoHS: Yes; Category: Chip SMD Resistors; Stock 1: 1321891; Pricing 1: 1=0,1, 10=0,017, 25=0,0128, 50=0,0096, 100=0,0068, 250=0,00544, 500=0,00436, 1000=0,00321 (USD); Value: 0R
footprint R_0805_2012_a (Chip Resistor; Body 2.0 x 1.3 mm (LxW typ))
pins: 1, 2

## R_1k2_b
designator R?, comment 1k2
Resistor SMD 0805; Manufacturer: Bourns; Manufacturer Part Number: CR0805-FX-1201ELF; Tolerance: 1%; Power Rating: 125mW; Voltage Rating: 150V; Temperature Coefficient: 100ppm/°C; Mounting Technology: Surface Mount; Case/Package: 0805; Case Code (Metric): 2012; Case Code (Imperial): 0805; Contact Plating: Tin; Min Operating Temperature: -55°C; Max Operating Temperature: 155°C; Package Quantity: 5000; Packaging: Tape and Reel; Number of Terminations: 2; Termination: SMD/SMT; Max Power Dissipation: 125mW; Features: Moisture Resistant; Series: CR0805; Length: 0.079inch; Width: 1.25mm; Height: 0.024inch; Thickness: 508um; Radiation Hardening: No; RoHS Compliant: Yes; ComponentLink1URL: https://datasheet.ciiva.com/5581/chpreztr-5581383.pdf?src-supplier=Mouser; ComponentLink1Description: https://datasheet.ciiva.com/5581/chpreztr-5581383.pdf?src-supplier=Mouser; ComponentLink2URL: https://datasheet.ciiva.com/9123/chpreztr-9123541.pdf?src-supplier=Avnet; ComponentLink2Description: https://datasheet.ciiva.com/9123/chpreztr-9123541.pdf?src-supplier=Avnet; Supplier 1: Digikey; Supplier Part Number 1: 118-CR0805-FX-1201ELFCT-ND; RoHS: Yes; Category: Chip SMD Resistors; Stock 1: 133927; Pricing 1: 1=0,1, 10=0,021, 50=0,0132, 100=0,011, 500=0,00744, 1000=0,00639 (USD); Value: 1k2
footprint R_0805_2012_a (Chip Resistor; Body 2.0 x 1.3 mm (LxW typ))
pins: 1, 2

## R_1k5_b
designator R?, comment 1k5
Resistor SMD 0805; Manufacturer: Stackpole Electronics; Manufacturer Part Number: RMCF0805FT1K50; Tolerance: 1%; Power Rating: 125mW; Temperature Coefficient: 100ppm/°C; Mounting Technology: Surface Mount; Case/Package: 0805; Case Code (Metric): 2012; Case Code (Imperial): 0805; Contact Plating: Tin,Matte; Min Operating Temperature: -55°C; Max Operating Temperature: 155°C; Packaging: Tape and Reel; Number of Terminations: 2; Max Power Dissipation: 125mW; Features: Automotive AEC-Q200; Series: RMCF; Construction: Rectangular; Length: 2mm; Width: 0.049inch; Height: 0.026inch; Depth: 1.25mm; Ratings: AEC-Q200; Radiation Hardening: No; Military Standard: Not; Lead Free: Lead Free; RoHS Compliant: Yes; ComponentLink1URL: https://datasheet.ciiva.com/16449/rmcf-1-10-1-5k-125-r-16449314.pdf?src-supplier=Future+Electronics; ComponentLink1Description: https://datasheet.ciiva.com/16449/rmcf-1-10-1-5k-125-r-16449314.pdf?src-supplier=Future+Electronics; ComponentLink2URL: https://datasheet.ciiva.com/15193/getdatasheetpartid-366459-15193549.pdf?src-supplier=Verical; ComponentLink2Description: https://datasheet.ciiva.com/15193/getdatasheetpartid-366459-15193549.pdf?src-supplier=Verical; Supplier 1: Digikey; Supplier Part Number 1: RMCF0805FT1K50CT-ND; RoHS: Yes; Category: Chip SMD Resistors; Stock 1: 232244; Pricing 1: 1=0,1, 10=0,02, 50=0,0124, 100=0,0103, 500=0,007, 1000=0,00601 (USD); Value: 1k5
footprint R_0805_2012_a (Chip Resistor; Body 2.0 x 1.3 mm (LxW typ))
pins: 1, 2

## R_1k8_b
designator R?, comment 1k8
Resistor SMD 0805; Manufacturer: Yageo; Manufacturer Part Number: RC0805FR-071K8L; Tolerance: 1%; Power Rating: 125mW; Voltage Rating: 150V; Temperature Coefficient: 100ppm/°C; Case/Package: 0805; Case Code (Imperial): 0805; Case Code (Metric): 2012; Min Operating Temperature: -55°C; Max Operating Temperature: 155°C; Packaging: Tape and Reel; Package Quantity: 1; Termination: SMD/SMT; Resistor Type: Thick Film; Number of Terminations: 2; Max Power Dissipation: 125mW; Features: Moisture Resistant; Series: RC; Resistance Tolerance: 1%; Construction: Rectangular; Technology: THICK FILM; Voltage Rating (AC): 150V; Length: 2mm; Width: 0.049inch; Height: 0.5mm; Depth: 1.25mm; Military Standard: Not; Lead Free: Lead Free; RoHS Compliant: Yes; Reach SVHC Compliant: Unknown; ComponentLink1URL: https://datasheet.ciiva.com/11808/0900766b8106beab-11808478.pdf?src-supplier=Rs; ComponentLink1Description: https://datasheet.ciiva.com/11808/0900766b8106beab-11808478.pdf?src-supplier=Rs; ComponentLink2URL: https://datasheet.ciiva.com/2457/pyu-r-int-thick-7-2457659.pdf?src-supplier=Digikey; ComponentLink2Description: https://datasheet.ciiva.com/2457/pyu-r-int-thick-7-2457659.pdf?src-supplier=Digikey; ComponentLink3URL: https://datasheet.ciiva.com/2457/pyu-r-int-thick-7-2457660.pdf?src-supplier=Digikey; ComponentLink3Description: https://datasheet.ciiva.com/2457/pyu-r-int-thick-7-2457660.pdf?src-supplier=Digikey; ComponentLink4URL: https://datasheet.ciiva.com/2457/pyu-r-int-thick-7-2457661.pdf?src-supplier=Digikey; ComponentLink4Description: https://datasheet.ciiva.com/2457/pyu-r-int-thick-7-2457661.pdf?src-supplier=Digikey; ComponentLink5URL: https://datasheet.ciiva.com/5557/rc0805-257173-5557976.pdf?src-supplier=Mouser; ComponentLink5Description: https://datasheet.ciiva.com/5557/rc0805-257173-5557976.pdf?src-supplier=Mouser; Supplier 1: Digikey; Supplier Part Number 1: 311-1.80KCRCT-ND; RoHS: Yes; Category: Chip SMD Resistors; Stock 1: 112286; Pricing 1: 1=0,1, 10=0,025, 50=0,016, 100=0,0133, 500=0,00912, 1000=0,00787 (USD); Value: 1k8
footprint R_0805_2012_a (Chip Resistor; Body 2.0 x 1.3 mm (LxW typ))
pins: 1, 2

## R_1k_b
designator R?, comment 1k
Resistor SMD 0805; Manufacturer: Bourns; Manufacturer Part Number: CR0805-FX-1001ELF; Tolerance: 1%; Temperature Coefficient: 100ppm/°C; Power Rating: 125mW; Voltage Rating: 150V; Mounting Technology: Surface Mount; Case/Package: 0805; Pins: 2; Contact Plating: Tin; Case Code (Imperial): 0805; Case Code (Metric): 2012; Min Operating Temperature: -55°C; Max Operating Temperature: 155°C; Resistor Type: Thick Film; Packaging: Tape and Reel; Package Quantity: 5000; Termination: SMD/SMT; Number of Terminations: 2; Max Power Dissipation: 125mW; Voltage Rating (DC): 150V; Features: Moisture Resistant; Series: CR0805; Resistance Tolerance: 1%; Technology: THICK FILM; Length: 2mm; Width: 1.25mm; Height: 0.5mm; Depth: 1.25mm; Thickness: 508um; Radiation Hardening: No; Reach SVHC Compliant: No; RoHS Compliant: Yes; ComponentLink1URL: https://datasheet.ciiva.com/11810/0900766b80fcdb72-11810305.pdf?src-supplier=Rs; ComponentLink1Description: https://datasheet.ciiva.com/11810/0900766b80fcdb72-11810305.pdf?src-supplier=Rs; ComponentLink2URL: https://datasheet.ciiva.com/27049/775383-27049976.pdf?src-supplier=Jameco; ComponentLink2Description: https://datasheet.ciiva.com/27049/775383-27049976.pdf?src-supplier=Jameco; ComponentLink3URL: https://datasheet.ciiva.com/7986/1856384-7986222.pdf?src-supplier=Element14; ComponentLink3Description: https://datasheet.ciiva.com/7986/1856384-7986222.pdf?src-supplier=Element14; ComponentLink4URL: https://datasheet.ciiva.com/9123/chpreztr-9123643.pdf?src-supplier=Avnet; ComponentLink4Description: https://datasheet.ciiva.com/9123/chpreztr-9123643.pdf?src-supplier=Avnet; ComponentLink5URL: https://datasheet.ciiva.com/6547/chpreztr-6547422.pdf?src-supplier=Digikey; ComponentLink5Description: https://datasheet.ciiva.com/6547/chpreztr-6547422.pdf?src-supplier=Digikey; ComponentLink6URL: https://datasheet.ciiva.com/6547/chpreztr-6547423.pdf?src-supplier=Digikey; ComponentLink6Description: https://datasheet.ciiva.com/6547/chpreztr-6547423.pdf?src-supplier=Digikey; ComponentLink7URL: https://datasheet.ciiva.com/6547/chpreztr-6547421.pdf?src-supplier=Digikey; ComponentLink7Description: https://datasheet.ciiva.com/6547/chpreztr-6547421.pdf?src-supplier=Digikey; ComponentLink8URL: https://datasheet.ciiva.com/30129/159chpreztr-30129981.pdf?src-supplier=Onlinecomponents.com; ComponentLink8Description: https://datasheet.ciiva.com/30129/159chpreztr-30129981.pdf?src-supplier=Onlinecomponents.com; ComponentLink9URL: https://datasheet.ciiva.com/46394/691949-46394380.pdf?src-supplier=Element14; ComponentLink9Description: https://datasheet.ciiva.com/46394/691949-46394380.pdf?src-supplier=Element14; ComponentLink10URL: https://datasheet.ciiva.com/16722/70154685-16722677.pdf?src-supplier=Allied+Electronics; ComponentLink10Description: https://datasheet.ciiva.com/16722/70154685-16722677.pdf?src-supplier=Allied+Electronics; ComponentLink11URL: https://datasheet.ciiva.com/48692/001055506-da-01-en-smd-wid-cr0805-fx-1001elf-1k-ohm-1-8w-48692106.pdf?src-supplier=Conrad; ComponentLink11Description: https://datasheet.ciiva.com/48692/001055506-da-01-en-smd-wid-cr0805-fx-1001elf-1k-ohm-1-8w-48692106.pdf?src-supplier=Conrad; Supplier 1: Digikey; Supplier Part Number 1: CR0805-FX-1001ELFCT-ND; RoHS: Yes; Category: Chip SMD Resistors; Stock 1: 453972; Pricing 1: 1=0,1, 10=0,021, 50=0,0132, 100=0,011, 500=0,00744, 1000=0,00639 (USD); Value: 1k
footprint R_0805_2012_a (Chip Resistor; Body 2.0 x 1.3 mm (LxW typ))
pins: 1, 2

## R_1k_f
designator R?, comment 1k
Resistor AXIAL ASRM; Manufacturer: Stackpole Electronics; Manufacturer Part Number: ASRM2JA1K00; Temperature Coefficient: -1800ppm/°C; Tolerance: 5%; Max Power Dissipation: 2W; Mounting Technology: Through Hole,Axial; Case/Package: Axial; Min Operating Temperature: -55°C; Max Operating Temperature: 155°C; Packaging: Cut Tape; Number of Terminations: 2; Features: Flame Retardant Coating; Series: ASRM; RoHS Compliant: Yes; ComponentLink1URL: https://www.seielect.com/Catalog/SEI-ASR_ASRM.pdf?src-supplier=Digikey; ComponentLink1Description: https://www.seielect.com/Catalog/SEI-ASR_ASRM.pdf?src-supplier=Digikey; Supplier 1: Digikey; Supplier Part Number 1: 738-ASRM2JA1K00CT-ND; RoHS: Yes; Category: Through-Hole Resistors; Stock 1: 6042; Pricing 1: 1=0,64, 10=0,503, 25=0,4544, 50=0,409, 100=0,3378, 250=0,31816 (USD); Value: 1k
footprint R_ASRM2
pins: 1, 2

## R_1k_f1
designator R?, comment 1k
Resistor AXIAL ASRM; Manufacturer: Yageo; Manufacturer Part Number: MFR200FRF73-1K; Tolerance: 1%; Power Rating: 2W; Voltage Rating (DC): 500V; Case/Package: Metal; Min Operating Temperature: -55°C; Max Operating Temperature: 155°C; Packaging: Tape and Reel; Termination: Axial; ComponentLink1URL: http://www.mouser.com/ds/2/447/Yageo%20LR_MFR_2013-467719.pdf?src-supplier=Mouser; ComponentLink1Description: http://www.mouser.com/ds/2/447/Yageo%20LR_MFR_2013-467719.pdf?src-supplier=Mouser; Supplier 1: Mouser; Supplier Part Number 1: 603-MFR200FRF73-1K; RoHS: Yes; Category: Resistors; Stock 1: 3880; Pricing 1: 1=0,51, 10=0,433, 50=0,433, 100=0,168, 1000=0,07, 10000=0,055 (USD); Value: 1k
footprint R_ASRM2
pins: 1, 2

## R_1M1_b
designator R?, comment 1M1
Resistor SMD 0805; Manufacturer: Yageo; Manufacturer Part Number: RC0805FR-071M1L; Tolerance: 1%; Temperature Coefficient: 100ppm/°C; Power Rating: 125mW; Voltage Rating: 150V; Case/Package: 0805; Contact Plating: Tin,Lead; Case Code (Imperial): 0805; Case Code (Metric): 2012; Min Operating Temperature: -55°C; Max Operating Temperature: 155°C; Packaging: Tape and Reel; Package Quantity: 1; Termination: SMD/SMT; Number of Terminations: 2; Max Power Dissipation: 125mW; Voltage Rating (DC): 150V; Features: Moisture Resistant; Series: RC; Length: 0.079inch; Width: 0.049inch; Height: 0.024inch; Lead Free: Lead Free; RoHS Compliant: Yes; ComponentLink1URL: https://datasheet.ciiva.com/2458/pyu-r-int-thick-7-2458875.pdf?src-supplier=Digikey; ComponentLink1Description: https://datasheet.ciiva.com/2458/pyu-r-int-thick-7-2458875.pdf?src-supplier=Digikey; ComponentLink2URL: https://datasheet.ciiva.com/2458/pyu-r-int-thick-7-2458876.pdf?src-supplier=Digikey; ComponentLink2Description: https://datasheet.ciiva.com/2458/pyu-r-int-thick-7-2458876.pdf?src-supplier=Digikey; ComponentLink3URL: https://datasheet.ciiva.com/2458/pyu-r-int-thick-7-2458877.pdf?src-supplier=Digikey; ComponentLink3Description: https://datasheet.ciiva.com/2458/pyu-r-int-thick-7-2458877.pdf?src-supplier=Digikey; ComponentLink4URL: https://datasheet.ciiva.com/17423/rc0805-17423255.pdf?src-supplier=Future+Electronics; ComponentLink4Description: https://datasheet.ciiva.com/17423/rc0805-17423255.pdf?src-supplier=Future+Electronics; ComponentLink5URL: https://datasheet.ciiva.com/12561/rc0805-257173-12561285.pdf?src-supplier=Mouser; ComponentLink5Description: https://datasheet.ciiva.com/12561/rc0805-257173-12561285.pdf?src-supplier=Mouser; Supplier 1: Digikey; Supplier Part Number 1: 311-1.10MCRCT-ND; RoHS: Yes; Category: Chip SMD Resistors; Stock 1: 21182; Pricing 1: 1=0,1, 10=0,026, 50=0,0164, 100=0,0138, 500=0,00954, 1000=0,00824 (USD); Value: 1M1
footprint R_0805_2012_a (Chip Resistor; Body 2.0 x 1.3 mm (LxW typ))
pins: 1, 2

## R_1M_b
designator R?, comment 1M
Resistor SMD 0805; Manufacturer: Yageo; Manufacturer Part Number: RC0805FR-131ML; Tolerance: 1%; Temperature Coefficient: 100ppm/°C; Power Rating: 125mW; Voltage Rating: 150V; Case/Package: 0805; Contact Plating: Tin,Matte; Case Code (Imperial): 0805; Case Code (Metric): 2012; Min Operating Temperature: -55°C; Max Operating Temperature: 155°C; Packaging: Tape and Reel; Termination: SMD/SMT; Series: RC; Length: 2mm; Width: 1.25mm; Height: 0.5mm; Lead Free: Lead Free; RoHS Compliant: Yes; ComponentLink1URL: https://datasheet.ciiva.com/12560/rc0805-257173-12560472.pdf?src-supplier=Mouser; ComponentLink1Description: https://datasheet.ciiva.com/12560/rc0805-257173-12560472.pdf?src-supplier=Mouser; ComponentLink2URL: https://datasheet.ciiva.com/17332/rc0805-17332618.pdf?src-supplier=Future+Electronics; ComponentLink2Description: https://datasheet.ciiva.com/17332/rc0805-17332618.pdf?src-supplier=Future+Electronics; Supplier 1: Digikey; Supplier Part Number 1: 13-RC0805FR-131MLCT-ND; RoHS: Yes; Category: Chip SMD Resistors; Stock 1: 43233; Pricing 1: 1=0,1, 10=0,025, 50=0,016, 100=0,0133, 500=0,00912, 1000=0,00787, 5000=0,00577, 10000=0,00511 (USD); Value: 1M
footprint R_0805_2012_a (Chip Resistor; Body 2.0 x 1.3 mm (LxW typ))
pins: 1, 2

## R_1R_b
designator R?, comment 1R
(Modificar)  Resistor SMD 0805; Value: 1R
footprint R_0805_2012_a (Chip Resistor; Body 2.0 x 1.3 mm (LxW typ))
pins: 1, 2

## R_1R_d
designator R?, comment 1R 1W
Resistor SMD 2512; Value: 1R 1W
footprint R_2512_6432_a
pins: 1, 2

## R_2k2_b
designator R?, comment 2k2
Resistor SMD 0805; Manufacturer: Bourns; Manufacturer Part Number: CR0805-FX-2201ELF; Voltage Rating: 150V; Tolerance: 1%; Power Rating: 125mW; Temperature Coefficient: 100ppm/°C; Mounting Technology: Surface Mount; Case/Package: 0805; Contact Plating: Tin; Case Code (Imperial): 0805; Case Code (Metric): 2012; Min Operating Temperature: -55°C; Max Operating Temperature: 155°C; Packaging: Tape and Reel; Package Quantity: 5000; Termination: SMD/SMT; Series: CR0805; Resistor Type: Thick Film; Voltage Rating (DC): 150V; Resistance Tolerance: 1%; Length: 2mm; Width: 1.25mm; Height: 0.5mm; Thickness: 508um; Radiation Hardening: No; RoHS Compliant: Yes; Reach SVHC Compliant: No; ComponentLink1URL: https://datasheet.ciiva.com/22713/691949-22713256.pdf?src-supplier=Element14; ComponentLink1Description: https://datasheet.ciiva.com/22713/691949-22713256.pdf?src-supplier=Element14; ComponentLink2URL: https://datasheet.ciiva.com/5541/chpreztr-5541000.pdf?src-supplier=Mouser; ComponentLink2Description: https://datasheet.ciiva.com/5541/chpreztr-5541000.pdf?src-supplier=Mouser; Supplier 1: Digikey; Supplier Part Number 1: 118-CR0805-FX-2201ELFCT-ND; RoHS: Yes; Category: Chip SMD Resistors; Stock 1: 80126; Pricing 1: 1=0,1, 10=0,021, 50=0,0132, 100=0,011, 500=0,00744, 1000=0,00639 (USD); Value: 2k2
footprint R_0805_2012_a (Chip Resistor; Body 2.0 x 1.3 mm (LxW typ))
pins: 1, 2

## R_2k7_b
designator R?, comment 2k7
Resistor SMD 0805; Manufacturer: Bourns; Manufacturer Part Number: CR0805-FX-2701ELF; Power Rating: 125mW; Tolerance: 1%; Voltage Rating: 150V; Temperature Coefficient: 100ppm/°C; Mounting Technology: Surface Mount; Case/Package: 0805; Case Code (Imperial): 0805; Case Code (Metric): 2012; Contact Plating: Tin; Min Operating Temperature: -55°C; Max Operating Temperature: 155°C; Packaging: Tape and Reel; Package Quantity: 5000; Termination: SMD/SMT; Number of Terminations: 2; Max Power Dissipation: 125mW; Features: Moisture Resistant; Series: CR0805; Voltage Rating (DC): 150V; Length: 0.079inch; Width: 1.25mm; Height: 0.024inch; Thickness: 508um; Radiation Hardening: No; RoHS Compliant: Yes; ComponentLink1URL: https://datasheet.ciiva.com/18608/chpreztr-18608505.pdf?src-supplier=Digikey; ComponentLink1Description: https://datasheet.ciiva.com/18608/chpreztr-18608505.pdf?src-supplier=Digikey; ComponentLink2URL: https://datasheet.ciiva.com/18608/chpreztr-18608506.pdf?src-supplier=Digikey; ComponentLink2Description: https://datasheet.ciiva.com/18608/chpreztr-18608506.pdf?src-supplier=Digikey; ComponentLink3URL: https://datasheet.ciiva.com/9123/chpreztr-9123127.pdf?src-supplier=Avnet; ComponentLink3Description: https://datasheet.ciiva.com/9123/chpreztr-9123127.pdf?src-supplier=Avnet; ComponentLink4URL: https://datasheet.ciiva.com/18608/chpreztr-18608504.pdf?src-supplier=Digikey; ComponentLink4Description: https://datasheet.ciiva.com/18608/chpreztr-18608504.pdf?src-supplier=Digikey; Supplier 1: Digikey; Supplier Part Number 1: CR0805-FX-2701ELFCT-ND; RoHS: Yes; Category: Chip SMD Resistors; Stock 1: 114515; Pricing 1: 1=0,1, 10=0,021, 50=0,0132, 100=0,011, 500=0,00744, 1000=0,00639 (USD); Value: 2k7
footprint R_0805_2012_a (Chip Resistor; Body 2.0 x 1.3 mm (LxW typ))
pins: 1, 2